# EAGLE library part LTM4623IY (library LT)
非絶縁PoLモジュール DC/DCコンバータ 1 出力 0.6～5.5 V 3A 4V 20V 入力
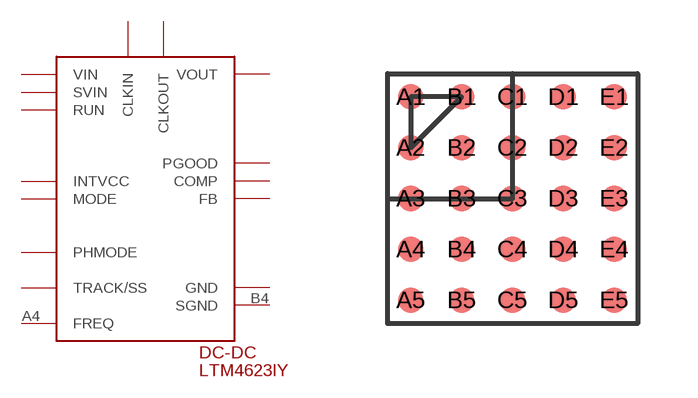
[diagram p2: symbol with the pads of LGA-25_STD; footprint LGA-25_STD]

Designator prefix DC-DC

## LTM4623IY  [LGA-25_STD]
A1  COMP
A2  TRACK/SS
A3  RUN
A4  FREQ
A5  CLKIN
B1  FB
B2  PHMODE
B3  GND
B4  SGND
B5  CLKOUT
C1  VOUT
C2  PGOOD
C3  GND
C4  MODE
C5  SVIN
D1  VOUT
D2  VOUT
D3  GND
D4  GND
D5  VIN
E1  VOUT
E2  VOUT
E3  GND
E4  INTVCC
E5  VIN

## Footprint LGA-25_STD (pad centres in mm)
smd 0.635 x 0.635: A1 -2.54,2.54; A2 -2.54,1.27; A3 -2.54,0; A4 -2.54,-1.27; A5 -2.54,-2.54; B1 -1.27,2.54; B2 -1.27,1.27; B3 -1.27,0; B4 -1.27,-1.27; B5 -1.27,-2.54; C1 0,2.54; C2 0,1.27; C3 0,0; C4 0,-1.27; C5 0,-2.54; D1 1.27,2.54; D2 1.27,1.27; D3 1.27,0; D4 1.27,-1.27; D5 1.27,-2.54; E1 2.54,2.54; E2 2.54,1.27; E3 2.54,0; E4 2.54,-1.27; E5 2.54,-2.54